# Altium footprint library Diode_THT.PcbLib: 111 footprints (part 3 of 7)
Each footprint in its own frame and in the unit in brackets; x right, y up, seen from the top. Pads: shape width x height; smd on the part's side, far side on the other; paste and mask are expansions set on the pad; w line width, h text height; cw(c..) or ccw(c..) is an arc to the next point about the centre after c.
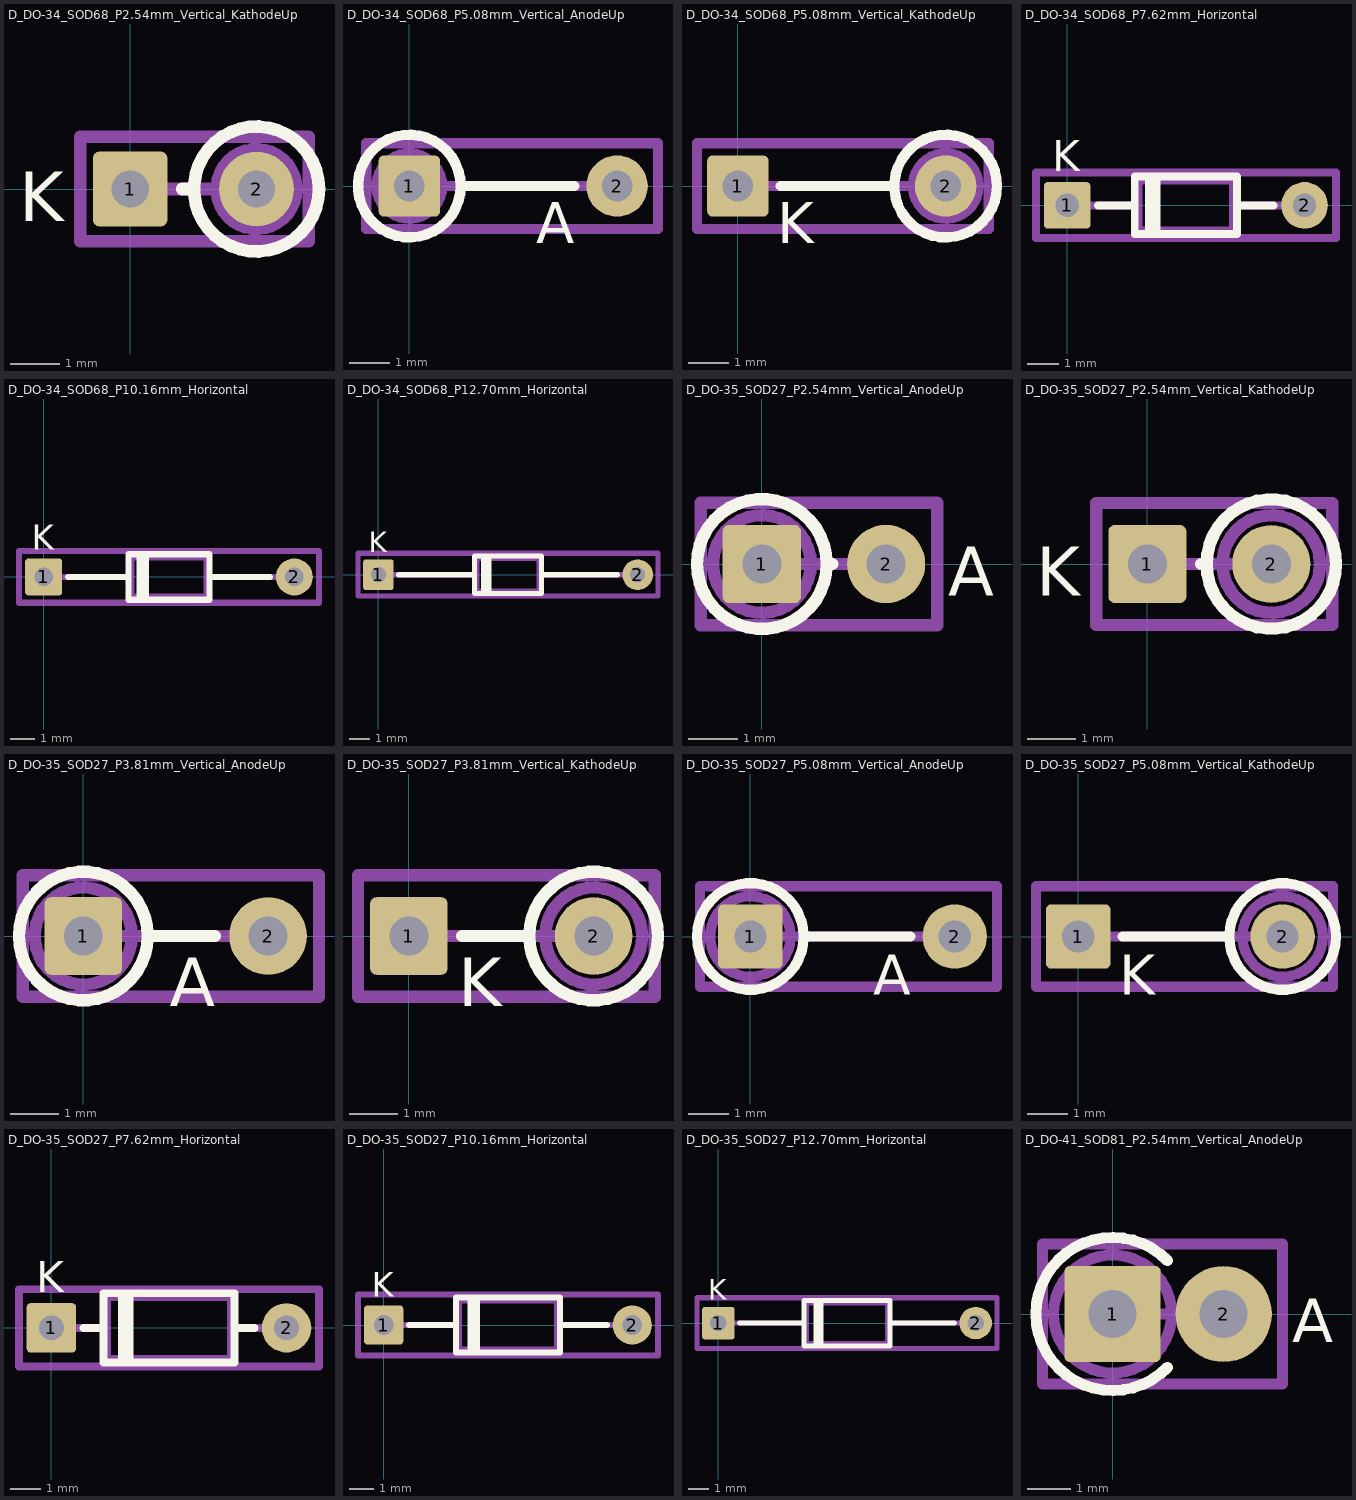
[diagram p2: the footprints below, top view; thin cyan lines are the x and y axes]

## D_DO-34_SOD68_P2.54mm_Vertical_KathodeUp [mm] "D_DO-34_SOD68_P2.54mm_Vertical_KathodeUp"
pads (2):
  rrect17% 1.5x1.5 hole 0.75: 1(0,0)
  round 1.5 hole 0.75: 2(2.54,0)
F.SilkS:
  circle w0.254: c2.54,0 r1.256
  lines w0.254: 1.05,0 1.284,0
  text "K" at -2.233,-0.65 h1
Top Component Center:
  lines w0.127: -0.127,0 0.127,0 ; 0,-0.127 0,0.127
Top Assembly:
  circle w0.254: c2.54,0 r0.8
  lines w0.254: 0,0 2.54,0
  text "K" at -2.233,-0.65 h1
Top Courtyard:
  lines w0.254: -1,-1.05 3.59,-1.05 3.59,1.05 -1,1.05 -1,-1.05
Top Designator:
  text ".Designator" at -2.291,0.036 h1.52

## D_DO-34_SOD68_P5.08mm_Vertical_AnodeUp [mm] "D_DO-34_SOD68_P5.08mm_Vertical_AnodeUp"
pads (2):
  rrect17% 1.5x1.5 hole 0.75: 1(0,0)
  round 1.5 hole 0.75: 2(5.08,0)
F.SilkS:
  circle w0.254: c0,0 r1.256
  lines w0.254: 1.256,0 4.03,0
  text "A" at 3.099,-1.4 h1
Top Component Center:
  lines w0.127: -0.127,0 0.127,0 ; 0,-0.127 0,0.127
Top Assembly:
  circle w0.254: c0,0 r0.8
  lines w0.254: 0,0 5.08,0
  text "A" at 3.099,-1.4 h1
Top Courtyard:
  lines w0.254: -1.05,-1.05 6.08,-1.05 6.08,1.05 -1.05,1.05 -1.05,-1.05
Top Designator:
  text ".Designator" at -1.044,0.187 h1.52

## D_DO-34_SOD68_P5.08mm_Vertical_KathodeUp [mm] "D_DO-34_SOD68_P5.08mm_Vertical_KathodeUp"
pads (2):
  rrect17% 1.5x1.5 hole 0.75: 1(0,0)
  round 1.5 hole 0.75: 2(5.08,0)
F.SilkS:
  circle w0.254: c5.08,0 r1.256
  lines w0.254: 1.05,0 3.824,0
  text "K" at 0.967,-1.4 h1
Top Component Center:
  lines w0.127: -0.127,0 0.127,0 ; 0,-0.127 0,0.127
Top Assembly:
  circle w0.254: c5.08,0 r0.8
  lines w0.254: 0,0 5.08,0
  text "K" at 0.967,-1.4 h1
Top Courtyard:
  lines w0.254: -1,-1.05 6.13,-1.05 6.13,1.05 -1,1.05 -1,-1.05
Top Designator:
  text ".Designator" at -1.031,0.187 h1.52

## D_DO-34_SOD68_P7.62mm_Horizontal [mm] "D_DO-34_SOD68_P7.62mm_Horizontal"
pads (2):
  rrect17% 1.5x1.5 hole 0.75: 1(0,0)
  round 1.5 hole 0.75: 2(7.62,0)
F.SilkS:
  lines w0.254: 0.99,0 2.17,0 ; 2.626,-0.92 2.626,0.92 ; 2.746,-0.92 2.746,0.92 ; 2.866,-0.92 2.866,0.92 ; 5.45,0 6.63,0 ; 2.17,-0.92 5.45,-0.92 5.45,0.92 2.17,0.92 2.17,-0.92
  text "K" at -0.483,1.1 h1
Top Component Center:
  lines w0.127: -0.127,0 0.127,0 ; 0,-0.127 0,0.127
Top Assembly:
  lines w0.254: 0,0 2.29,0 ; 2.646,-0.8 2.646,0.8 ; 2.746,-0.8 2.746,0.8 ; 2.846,-0.8 2.846,0.8 ; 5.33,0 7.62,0 ; 2.29,-0.8 5.33,-0.8 5.33,0.8 2.29,0.8 2.29,-0.8
  text "K" at -0.483,1.1 h1
Top Courtyard:
  lines w0.254: -1,-1.05 8.63,-1.05 8.63,1.05 -1,1.05 -1,-1.05
Top Designator:
  text ".Designator" at 0.503,-0.345 h1.52
3D body "D_DO-34_SOD68_P7.62mm_Horizontal.step": height 2.1, standoff -2.5, extent -0.275,-0.799 7.895,0.799

## D_DO-34_SOD68_P10.16mm_Horizontal [mm] "D_DO-34_SOD68_P10.16mm_Horizontal"
pads (2):
  rrect17% 1.5x1.5 hole 0.75: 1(0,0)
  round 1.5 hole 0.75: 2(10.16,0)
F.SilkS:
  lines w0.254: 0.99,0 3.44,0 ; 3.896,-0.92 3.896,0.92 ; 4.016,-0.92 4.016,0.92 ; 4.136,-0.92 4.136,0.92 ; 6.72,0 9.17,0 ; 3.44,-0.92 6.72,-0.92 6.72,0.92 3.44,0.92 3.44,-0.92
  text "K" at -0.483,1.1 h1
Top Component Center:
  lines w0.127: -0.127,0 0.127,0 ; 0,-0.127 0,0.127
Top Assembly:
  lines w0.254: 0,0 3.56,0 ; 3.916,-0.8 3.916,0.8 ; 4.016,-0.8 4.016,0.8 ; 4.116,-0.8 4.116,0.8 ; 6.6,0 10.16,0 ; 3.56,-0.8 6.6,-0.8 6.6,0.8 3.56,0.8 3.56,-0.8
  text "K" at -0.483,1.1 h1
Top Courtyard:
  lines w0.254: -1,-1.05 11.16,-1.05 11.16,1.05 -1,1.05 -1,-1.05
Top Designator:
  text ".Designator" at 1.773,-0.218 h1.52
3D body "D_DO-34_SOD68_P10.16mm_Horizontal.step": height 2.1, standoff -2.5, extent -0.275,-0.799 10.435,0.799

## D_DO-34_SOD68_P12.70mm_Horizontal [mm] "D_DO-34_SOD68_P12.70mm_Horizontal"
pads (2):
  rrect17% 1.5x1.5 hole 0.75: 1(0,0)
  round 1.5 hole 0.75: 2(12.7,0)
F.SilkS:
  lines w0.254: 0.99,0 4.71,0 ; 5.166,-0.92 5.166,0.92 ; 5.286,-0.92 5.286,0.92 ; 5.406,-0.92 5.406,0.92 ; 7.99,0 11.71,0 ; 4.71,-0.92 4.71,0.92 7.99,0.92 7.99,-0.92 4.71,-0.92
  text "K" at -0.483,1.1 h1
Top Component Center:
  lines w0.127: -0.127,0 0.127,0 ; 0,-0.127 0,0.127
Top Assembly:
  lines w0.254: 0,0 4.83,0 ; 5.186,-0.8 5.186,0.8 ; 5.286,-0.8 5.286,0.8 ; 5.386,-0.8 5.386,0.8 ; 7.87,0 12.7,0 ; 4.83,-0.8 4.83,0.8 7.87,0.8 7.87,-0.8 4.83,-0.8
  text "K" at -0.483,1.1 h1
Top Courtyard:
  lines w0.254: -1,-1.05 -1,1.05 13.7,1.05 13.7,-1.05 -1,-1.05
Top Designator:
  text ".Designator" at 3.043,-0.345 h1.52
3D body "D_DO-34_SOD68_P12.70mm_Horizontal.step": height 2.1, standoff -2.5, extent -0.275,-0.799 12.975,0.799

## D_DO-35_SOD27_P2.54mm_Vertical_AnodeUp [mm] "D_DO-35_SOD27_P2.54mm_Vertical_AnodeUp"
pads (2):
  rrect16% 1.6x1.6 hole 0.8: 1(0,0)
  round 1.6 hole 0.8: 2(2.54,0)
F.SilkS:
  circle w0.254: c0,0 r1.326
  lines w0.254: 1.326,0 1.44,0
  text "A" at 3.809,-0.65 h1
Top Component Center:
  lines w0.127: -0.127,0 0.127,0 ; 0,-0.127 0,0.127
Top Assembly:
  circle w0.254: c0,0 r1
  lines w0.254: 0,0 2.54,0
  text "A" at 3.809,-0.65 h1
Top Courtyard:
  lines w0.254: -1.25,-1.25 3.59,-1.25 3.59,1.25 -1.25,1.25 -1.25,-1.25
Top Designator:
  text ".Designator" at -2.314,0.27 h1.52
3D body "D_DO-35_SOD27_P2.54mm_Vertical_AnodeUp.step": height 5.75, standoff -3, extent -1.01,-1.003 2.79,1.003

## D_DO-35_SOD27_P2.54mm_Vertical_KathodeUp [mm] "D_DO-35_SOD27_P2.54mm_Vertical_KathodeUp"
pads (2):
  rrect16% 1.6x1.6 hole 0.8: 1(0,0)
  round 1.6 hole 0.8: 2(2.54,0)
F.SilkS:
  circle w0.254: c2.54,0 r1.326
  lines w0.254: 1.1,0 1.214,0
  text "K" at -2.283,-0.65 h1
Top Component Center:
  lines w0.127: -0.127,0 0.127,0 ; 0,-0.127 0,0.127
Top Assembly:
  circle w0.254: c2.54,0 r1
  lines w0.254: 0,0 2.54,0
  text "K" at -2.283,-0.65 h1
Top Courtyard:
  lines w0.254: -1.05,-1.25 3.79,-1.25 3.79,1.25 -1.05,1.25 -1.05,-1.25
Top Designator:
  text ".Designator" at -2.314,0.27 h1.52
3D body "D_DO-35_SOD27_P2.54mm_Vertical_KathodeUp.step": height 5.75, standoff -3, extent -0.25,-1.003 3.55,1.003

## D_DO-35_SOD27_P3.81mm_Vertical_AnodeUp [mm] "D_DO-35_SOD27_P3.81mm_Vertical_AnodeUp"
pads (2):
  rrect16% 1.6x1.6 hole 0.8: 1(0,0)
  round 1.6 hole 0.8: 2(3.81,0)
F.SilkS:
  circle w0.254: c0,0 r1.326
  lines w0.254: 1.326,0 2.71,0
  text "A" at 1.779,-1.45 h1
Top Component Center:
  lines w0.127: -0.127,0 0.127,0 ; 0,-0.127 0,0.127
Top Assembly:
  circle w0.254: c0,0 r1
  lines w0.254: 0,0 3.81,0
  text "A" at 1.779,-1.45 h1
Top Courtyard:
  lines w0.254: -1.25,-1.25 4.86,-1.25 4.86,1.25 -1.25,1.25 -1.25,-1.25
Top Designator:
  text ".Designator" at -1.529,0.417 h1.52

## D_DO-35_SOD27_P3.81mm_Vertical_KathodeUp [mm] "D_DO-35_SOD27_P3.81mm_Vertical_KathodeUp"
pads (2):
  rrect16% 1.6x1.6 hole 0.8: 1(0,0)
  round 1.6 hole 0.8: 2(3.81,0)
F.SilkS:
  circle w0.254: c3.81,0 r1.326
  lines w0.254: 1.1,0 2.484,0
  text "K" at 1.017,-1.45 h1
Top Component Center:
  lines w0.127: -0.127,0 0.127,0 ; 0,-0.127 0,0.127
Top Assembly:
  circle w0.254: c3.81,0 r1
  lines w0.254: 0,0 3.81,0
  text "K" at 1.017,-1.45 h1
Top Courtyard:
  lines w0.254: -1.05,-1.25 5.07,-1.25 5.07,1.25 -1.05,1.25 -1.05,-1.25
Top Designator:
  text ".Designator" at -1.529,0.163 h1.52

## D_DO-35_SOD27_P5.08mm_Vertical_AnodeUp [mm] "D_DO-35_SOD27_P5.08mm_Vertical_AnodeUp"
pads (2):
  rrect16% 1.6x1.6 hole 0.8: 1(0,0)
  round 1.6 hole 0.8: 2(5.08,0)
F.SilkS:
  circle w0.254: c0,0 r1.326
  lines w0.254: 1.326,0 3.98,0
  text "A" at 3.049,-1.45 h1
Top Component Center:
  lines w0.127: -0.127,0 0.127,0 ; 0,-0.127 0,0.127
Top Assembly:
  circle w0.254: c0,0 r1
  lines w0.254: 0,0 5.08,0
  text "A" at 3.049,-1.45 h1
Top Courtyard:
  lines w0.254: -1.25,-1.25 6.13,-1.25 6.13,1.25 -1.25,1.25 -1.25,-1.25
Top Designator:
  text ".Designator" at -0.767,0.29 h1.52
3D body "D_DO-35_SOD27_P5.08mm_Vertical_AnodeUp.step": height 5.75, standoff -3, extent -1.01,-1.003 5.33,1.003

## D_DO-35_SOD27_P5.08mm_Vertical_KathodeUp [mm] "D_DO-35_SOD27_P5.08mm_Vertical_KathodeUp"
pads (2):
  rrect16% 1.6x1.6 hole 0.8: 1(0,0)
  round 1.6 hole 0.8: 2(5.08,0)
F.SilkS:
  circle w0.254: c5.08,0 r1.326
  lines w0.254: 1.1,0 3.754,0
  text "K" at 1.017,-1.45 h1
Top Component Center:
  lines w0.127: -0.127,0 0.127,0 ; 0,-0.127 0,0.127
Top Assembly:
  circle w0.254: c5.08,0 r1
  lines w0.254: 0,0 5.08,0
  text "K" at 1.017,-1.45 h1
Top Courtyard:
  lines w0.254: -1.05,-1.25 6.33,-1.25 6.33,1.25 -1.05,1.25 -1.05,-1.25
Top Designator:
  text ".Designator" at -0.996,0.197 h1.52
3D body "D_DO-35_SOD27_P5.08mm_Vertical_KathodeUp.step": height 5.75, standoff -3, extent -0.25,-1.003 6.09,1.003

## D_DO-35_SOD27_P7.62mm_Horizontal [mm] "D_DO-35_SOD27_P7.62mm_Horizontal"
pads (2):
  rrect16% 1.6x1.6 hole 0.8: 1(0,0)
  round 1.6 hole 0.8: 2(7.62,0)
F.SilkS:
  lines w0.254: 1.04,0 1.69,0 ; 2.29,-1.12 2.29,1.12 ; 2.41,-1.12 2.41,1.12 ; 2.53,-1.12 2.53,1.12 ; 5.93,0 6.58,0 ; 1.69,-1.12 5.93,-1.12 5.93,1.12 1.69,1.12 1.69,-1.12
  text "K" at -0.483,1.15 h1
Top Component Center:
  lines w0.127: -0.127,0 0.127,0 ; 0,-0.127 0,0.127
Top Assembly:
  lines w0.254: 0,0 1.81,0 ; 2.31,-1 2.31,1 ; 2.41,-1 2.41,1 ; 2.51,-1 2.51,1 ; 5.81,0 7.62,0 ; 1.81,-1 5.81,-1 5.81,1 1.81,1 1.81,-1
  text "K" at -0.483,1.15 h1
Top Courtyard:
  lines w0.254: -1.05,-1.25 8.67,-1.25 8.67,1.25 -1.05,1.25 -1.05,-1.25
Top Designator:
  text ".Designator" at 0.757,-0.345 h1.52
3D body "D_DO-35_SOD27_P7.62mm_Horizontal.step": height 2.51, standoff -2.5, extent -0.25,-1.003 7.87,1.003

## D_DO-35_SOD27_P10.16mm_Horizontal [mm] "D_DO-35_SOD27_P10.16mm_Horizontal"
pads (2):
  rrect16% 1.6x1.6 hole 0.8: 1(0,0)
  round 1.6 hole 0.8: 2(10.16,0)
F.SilkS:
  lines w0.254: 1.04,0 2.96,0 ; 3.56,-1.12 3.56,1.12 ; 3.68,-1.12 3.68,1.12 ; 3.8,-1.12 3.8,1.12 ; 7.2,0 9.12,0 ; 2.96,-1.12 7.2,-1.12 7.2,1.12 2.96,1.12 2.96,-1.12
  text "K" at -0.483,1.15 h1
Top Component Center:
  lines w0.127: -0.127,0 0.127,0 ; 0,-0.127 0,0.127
Top Assembly:
  lines w0.254: 0,0 3.08,0 ; 3.58,-1 3.58,1 ; 3.68,-1 3.68,1 ; 3.78,-1 3.78,1 ; 7.08,0 10.16,0 ; 3.08,-1 7.08,-1 7.08,1 3.08,1 3.08,-1
  text "K" at -0.483,1.15 h1
Top Courtyard:
  lines w0.254: -1.05,-1.25 11.21,-1.25 11.21,1.25 -1.05,1.25 -1.05,-1.25
Top Designator:
  text ".Designator" at 1.9,-0.345 h1.52
3D body "D_DO-35_SOD27_P10.16mm_Horizontal.step": height 2.51, standoff -2.5, extent -0.25,-1.003 10.41,1.003

## D_DO-35_SOD27_P12.70mm_Horizontal [mm] "D_DO-35_SOD27_P12.70mm_Horizontal"
pads (2):
  rrect16% 1.6x1.6 hole 0.8: 1(0,0)
  round 1.6 hole 0.8: 2(12.7,0)
F.SilkS:
  lines w0.254: 1.04,0 4.23,0 ; 4.83,-1.12 4.83,1.12 ; 4.95,-1.12 4.95,1.12 ; 5.07,-1.12 5.07,1.12 ; 8.47,0 11.66,0 ; 4.23,-1.12 8.47,-1.12 8.47,1.12 4.23,1.12 4.23,-1.12
  text "K" at -0.483,1.15 h1
Top Component Center:
  lines w0.127: -0.127,0 0.127,0 ; 0,-0.127 0,0.127
Top Assembly:
  lines w0.254: 0,0 4.35,0 ; 4.85,-1 4.85,1 ; 4.95,-1 4.95,1 ; 5.05,-1 5.05,1 ; 8.35,0 12.7,0 ; 4.35,-1 8.35,-1 8.35,1 4.35,1 4.35,-1
  text "K" at -0.483,1.15 h1
Top Courtyard:
  lines w0.254: -1.05,-1.25 13.75,-1.25 13.75,1.25 -1.05,1.25 -1.05,-1.25
Top Designator:
  text ".Designator" at 3.043,-0.345 h1.52
3D body "D_DO-35_SOD27_P12.70mm_Horizontal.step": height 2.51, standoff -2.5, extent -0.25,-1.003 12.95,1.003

## D_DO-41_SOD81_P2.54mm_Vertical_AnodeUp [mm] "D_DO-41_SOD81_P2.54mm_Vertical_AnodeUp"
pads (2):
  rrect11% 2.2x2.2 hole 1.1: 1(0,0)
  round 2.2 hole 1.1: 2(2.54,0)
F.SilkS:
  lines w0.254: 1.256,-1.22 cw(c0,0) 1.256,1.22
  text "A" at 4.109,-0.65 h1
Top Component Center:
  lines w0.127: -0.127,0 0.127,0 ; 0,-0.127 0,0.127
Top Assembly:
  circle w0.254: c0,0 r1.35
  lines w0.254: 0,0 2.54,0
  text "A" at 4.109,-0.65 h1
Top Courtyard:
  lines w0.254: -1.6,-1.6 -1.6,1.6 3.89,1.6 3.89,-1.6 -1.6,-1.6
Top Designator:
  text ".Designator" at -2.291,0.671 h1.52
3D body "D_DO-41_SOD81_P2.54mm_Vertical_AnodeUp.step": height 7.4, standoff -3, extent -1.36,-1.35 2.94,1.35